# EAGLE library part SSV-G08 (library con-yamaichi)
YAMAICHI CONNECTOR
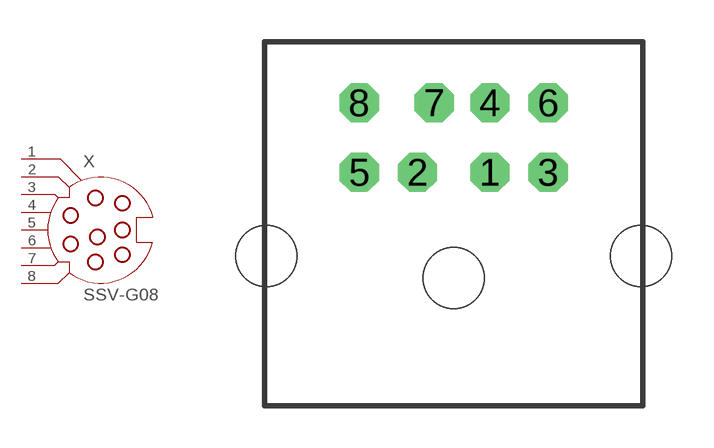
[diagram p11: symbol with the pads of SSV-BC08; footprint SSV-BC08]

Designator prefix X

## SSV-G08 (OC_FARNELL: unknown; OC_NEWARK: unknown)  [SSV-BC08]
1  1  pas
2  2  pas
3  3  pas
4  4  pas
5  5  pas
6  6  pas
7  7  pas
8  8  pas

## Footprint SSV-BC08 (pad centres in mm)
Mini Din YAMAICHI CONNECTOR
drill 0.9 octagon: 1 1.3,8.5; 2 -1.3,8.5; 3 3.4,8.5; 4 1.3,11; 5 -3.4,8.5; 6 3.4,11; 7 -0.7,11; 8 -3.4,11
hole 2.2 at -6.75,5.5
hole 2.2 at 0,4.7
hole 2.2 at 6.75,5.5